# Altium schematic symbol library PPPC062LFBN-RC.SchLib: 1 symbol
Pins are listed as number, name and electrical type; pins without a type are passive.

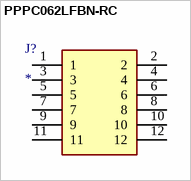
[diagram p0: symbol PPPC062LFBN-RC]

## PPPC062LFBN-RC
designator J?
Connector; Manufacturer_Name: Sullins; Manufacturer_Part_Number: PPPC062LFBN-RC; Datasheet Link: https://drawings-pdf.s3.amazonaws.com/10492.pdf; Height: 8.5mm
footprint RHDR12W80P254_2X6_1574X508X850P
pins: 1, 2, 3, 4, 5, 6, 7, 8, 9, 10, 11, 12